# EAGLE library part SATA_674901225 (library NewSDR)
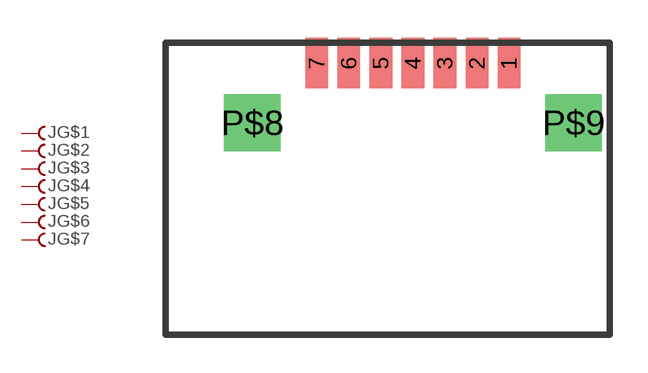
[diagram p41: symbol with the pads of SATA_674901225; footprint SATA_674901225]

Designator prefix J; gates G$1=F G$2=F G$3=F G$4=F G$5=F G$6=F G$7=F

## SATA_674901225  [SATA_674901225]
1  G$1:F  pas
2  G$2:F  pas
3  G$3:F  pas
4  G$4:F  pas
5  G$5:F  pas
6  G$6:F  pas
7  G$7:F  pas

## Footprint SATA_674901225 (pad centres in mm)
smd 0.9 x 2: 1 3.81,2.36; 2 2.54,2.36; 3 1.27,2.36; 4 0,2.36; 5 -1.27,2.36; 6 -2.54,2.36; 7 -3.81,2.36
drill 1.5 square: P$8 -6.37,0; P$9 6.37,0